# EAGLE library part MEZ_DF12B-10 (library heck)
HIROSE DF12B Header/Recepticle, 10 pin
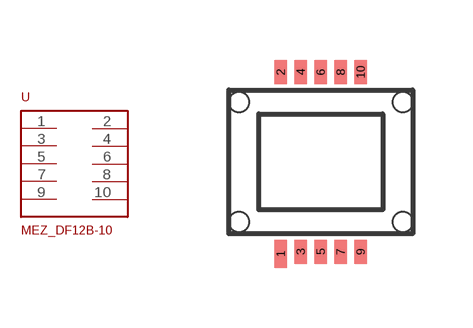
[diagram p5: symbol with the pads of MEZ_DF12B-10; footprint MEZ_DF12B-10]

Designator prefix -

## MEZ_DF12B-10  [MEZ_DF12B-10]
1  1  pas
2  2  pas
3  3  pas
4  4  pas
5  5  pas
6  6  pas
7  7  pas
8  8  pas
9  9  pas
10  10  pas

## Footprint MEZ_DF12B-10 (pad centres in mm)
smd 0.305 x 0.71: 1 -1,-2.3
smd 0.305 x 0.61: 2 -1,2.25; 3 -0.5,-2.25; 4 -0.5,2.25; 5 0,-2.25; 6 0,2.25; 7 0.5,-2.25; 8 0.5,2.25; 9 1,-2.25; 10 1,2.25
hole 0.5 at 2.05,1.5
hole 0.5 at 2.05,-1.5
hole 0.5 at -2.05,-1.5
hole 0.5 at -2.05,1.5